# Altium footprint library LQFP.PcbLib: 2 footprints
Each footprint in its own frame and in the unit in brackets; x right, y up, seen from the top. Pads: shape width x height; smd on the part's side, far side on the other; paste and mask are expansions set on the pad; w line width, h text height; cw(c..) or ccw(c..) is an arc to the next point about the centre after c.
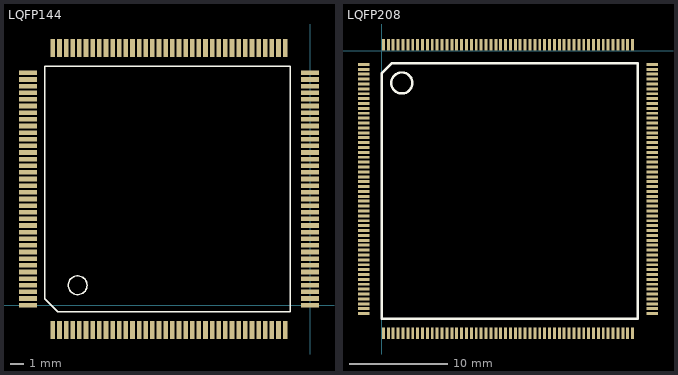
[diagram p0: the footprints below, top view; thin cyan lines are the x and y axes]

## LQFP144 [mm]
pads (144):
  rect 0.35x1.35 smd: 1(-19.375,-1.875) 2(-18.875,-1.875) 3(-18.375,-1.875) 4(-17.875,-1.875) 5(-17.375,-1.875) 6(-16.875,-1.875) 7(-16.375,-1.875) 8(-15.875,-1.875) 9(-15.375,-1.875) 10(-14.875,-1.875) 11(-14.375,-1.875) 12(-13.875,-1.875) 13(-13.375,-1.875) 14(-12.875,-1.875) 15(-12.375,-1.875) 16(-11.875,-1.875) 17(-11.375,-1.875) 18(-10.875,-1.875) 19(-10.375,-1.875) 20(-9.875,-1.875) 21(-9.375,-1.875) 22(-8.875,-1.875) 23(-8.375,-1.875) 24(-7.875,-1.875) 25(-7.375,-1.875) 26(-6.875,-1.875) 27(-6.375,-1.875) 28(-5.875,-1.875) 29(-5.375,-1.875) 30(-4.875,-1.875) 31(-4.375,-1.875) 32(-3.875,-1.875) 33(-3.375,-1.875) 34(-2.875,-1.875) 35(-2.375,-1.875) 36(-1.875,-1.875) 73(-1.875,19.375) 74(-2.375,19.375) 75(-2.875,19.375) 76(-3.375,19.375) 77(-3.875,19.375) 78(-4.375,19.375) 79(-4.875,19.375) 80(-5.375,19.375) 81(-5.875,19.375) 82(-6.375,19.375) 83(-6.875,19.375) 84(-7.375,19.375) 85(-7.875,19.375) 86(-8.375,19.375) 87(-8.875,19.375) 88(-9.375,19.375) 89(-9.875,19.375) 90(-10.375,19.375) 91(-10.875,19.375) 92(-11.375,19.375) 93(-11.875,19.375) 94(-12.375,19.375) 95(-12.875,19.375) 96(-13.375,19.375) 97(-13.875,19.375) 98(-14.375,19.375) 99(-14.875,19.375) 100(-15.375,19.375) 101(-15.875,19.375) 102(-16.375,19.375) 103(-16.875,19.375) 104(-17.375,19.375) 105(-17.875,19.375) 106(-18.375,19.375) 107(-18.875,19.375) 108(-19.375,19.375)
  rect 1.35x0.35 smd: 37(0,0) 38(0,0.5) 39(0,1) 40(0,1.5) 41(0,2) 42(0,2.5) 43(0,3) 44(0,3.5) 45(0,4) 46(0,4.5) 47(0,5) 48(0,5.5) 49(0,6) 50(0,6.5) 51(0,7) 52(0,7.5) 53(0,8) 54(0,8.5) 55(0,9) 56(0,9.5) 57(0,10) 58(0,10.5) 59(0,11) 60(0,11.5) 61(0,12) 62(0,12.5) 63(0,13) 64(0,13.5) 65(0,14) 66(0,14.5) 67(0,15) 68(0,15.5) 69(0,16) 70(0,16.5) 71(0,17) 72(0,17.5) 109(-21.25,17.5) 110(-21.25,17) 111(-21.25,16.5) 112(-21.25,16) 113(-21.25,15.5) 114(-21.25,15) 115(-21.25,14.5) 116(-21.25,14) 117(-21.25,13.5) 118(-21.25,13) 119(-21.25,12.5) 120(-21.25,12) 121(-21.25,11.5) 122(-21.25,11) 123(-21.25,10.5) 124(-21.25,10) 125(-21.25,9.5) 126(-21.25,9) 127(-21.25,8.5) 128(-21.25,8) 129(-21.25,7.5) 130(-21.25,7) 131(-21.25,6.5) 132(-21.25,6) 133(-21.25,5.5) 134(-21.25,5) 135(-21.25,4.5) 136(-21.25,4) 137(-21.25,3.5) 138(-21.25,3) 139(-21.25,2.5) 140(-21.25,2) 141(-21.25,1.5) 142(-21.25,1) 143(-21.25,0.5) 144(-21.25,0)
Top Overlay:
  circle w0.1: c-17.5,1.5 r0.707
  lines w0.1: -20,0.5 -20,18 -1.5,18 -1.5,17.5 -1.5,-0.5 -19,-0.5 -20,0.5
3D body "User Library-LQFP144_STM32F4.STEP": height 2, standoff 0.1, extent -21.625,-2.25 0.375,19.75

## LQFP208 [mm]
pads (208):
  rect 1.2x0.3 smd: 1(-1.85,-1.4) 2(-1.85,-1.9) 3(-1.85,-2.4) 4(-1.85,-2.9) 5(-1.85,-3.4) 6(-1.85,-3.9) 7(-1.85,-4.4) 8(-1.85,-4.9) 9(-1.85,-5.4) 10(-1.85,-5.9) 11(-1.85,-6.4) 12(-1.85,-6.9) 13(-1.85,-7.4) 14(-1.85,-7.9) 15(-1.85,-8.4) 16(-1.85,-8.9) 17(-1.85,-9.4) 18(-1.85,-9.9) 19(-1.85,-10.4) 20(-1.85,-10.9) 21(-1.85,-11.4) 22(-1.85,-11.9) 23(-1.85,-12.4) 24(-1.85,-12.9) 25(-1.85,-13.4) 26(-1.85,-13.9) 27(-1.85,-14.4) 28(-1.85,-14.9) 29(-1.85,-15.4) 30(-1.85,-15.9) 31(-1.85,-16.4) 32(-1.85,-16.9) 33(-1.85,-17.4) 34(-1.85,-17.9) 35(-1.85,-18.4) 36(-1.85,-18.9) 37(-1.85,-19.4) 38(-1.85,-19.9) 39(-1.85,-20.4) 40(-1.85,-20.9) 41(-1.85,-21.4) 42(-1.85,-21.9) 43(-1.85,-22.4) 44(-1.85,-22.9) 45(-1.85,-23.4) 46(-1.85,-23.9) 47(-1.85,-24.4) 48(-1.85,-24.9) 49(-1.85,-25.4) 50(-1.85,-25.9) 51(-1.85,-26.4) 52(-1.85,-26.9) 105(27.65,-26.9) 106(27.65,-26.4) 107(27.65,-25.9) 108(27.65,-25.4) 109(27.65,-24.9) 110(27.65,-24.4) 111(27.65,-23.9) 112(27.65,-23.4) 113(27.65,-22.9) 114(27.65,-22.4) 115(27.65,-21.9) 116(27.65,-21.4) 117(27.65,-20.9) 118(27.65,-20.4) 119(27.65,-19.9) 120(27.65,-19.4) 121(27.65,-18.9) 122(27.65,-18.4) 123(27.65,-17.9) 124(27.65,-17.4) 125(27.65,-16.9) 126(27.65,-16.4) 127(27.65,-15.9) 128(27.65,-15.4) 129(27.65,-14.9) 130(27.65,-14.4) 131(27.65,-13.9) 132(27.65,-13.4) 133(27.65,-12.9) 134(27.65,-12.4) 135(27.65,-11.9) 136(27.65,-11.4) 137(27.65,-10.9) 138(27.65,-10.4) 139(27.65,-9.9) 140(27.65,-9.4) 141(27.65,-8.9) 142(27.65,-8.4) 143(27.65,-7.9) 144(27.65,-7.4) 145(27.65,-6.9) 146(27.65,-6.4) 147(27.65,-5.9) 148(27.65,-5.4) 149(27.65,-4.9) 150(27.65,-4.4) 151(27.65,-3.9) 152(27.65,-3.4) 153(27.65,-2.9) 154(27.65,-2.4) 155(27.65,-1.9) 156(27.65,-1.4)
  rect 0.3x1.2 smd: 53(0.15,-28.9) 54(0.65,-28.9) 55(1.15,-28.9) 56(1.65,-28.9) 57(2.15,-28.9) 58(2.65,-28.9) 59(3.15,-28.9) 60(3.65,-28.9) 61(4.15,-28.9) 62(4.65,-28.9) 63(5.15,-28.9) 64(5.65,-28.9) 65(6.15,-28.9) 66(6.65,-28.9) 67(7.15,-28.9) 68(7.65,-28.9) 69(8.15,-28.9) 70(8.65,-28.9) 71(9.15,-28.9) 72(9.65,-28.9) 73(10.15,-28.9) 74(10.65,-28.9) 75(11.15,-28.9) 76(11.65,-28.9) 77(12.15,-28.9) 78(12.65,-28.9) 79(13.15,-28.9) 80(13.65,-28.9) 81(14.15,-28.9) 82(14.65,-28.9) 83(15.15,-28.9) 84(15.65,-28.9) 85(16.15,-28.9) 86(16.65,-28.9) 87(17.15,-28.9) 88(17.65,-28.9) 89(18.15,-28.9) 90(18.65,-28.9) 91(19.15,-28.9) 92(19.65,-28.9) 93(20.15,-28.9) 94(20.65,-28.9) 95(21.15,-28.9) 96(21.65,-28.9) 97(22.15,-28.9) 98(22.65,-28.9) 99(23.15,-28.9) 100(23.65,-28.9) 101(24.15,-28.9) 102(24.65,-28.9) 103(25.15,-28.9) 104(25.65,-28.9) 157(25.65,0.6) 158(25.15,0.6) 159(24.65,0.6) 160(24.15,0.6) 161(23.65,0.6) 162(23.15,0.6) 163(22.65,0.6) 164(22.15,0.6) 165(21.65,0.6) 166(21.15,0.6) 167(20.65,0.6) 168(20.15,0.6) 169(19.65,0.6) 170(19.15,0.6) 171(18.65,0.6) 172(18.15,0.6) 173(17.65,0.6) 174(17.15,0.6) 175(16.65,0.6) 176(16.15,0.6) 177(15.65,0.6) 178(15.15,0.6) 179(14.65,0.6) 180(14.15,0.6) 181(13.65,0.6) 182(13.15,0.6) 183(12.65,0.6) 184(12.15,0.6) 185(11.65,0.6) 186(11.15,0.6) 187(10.65,0.6) 188(10.15,0.6) 189(9.65,0.6) 190(9.15,0.6) 191(8.65,0.6) 192(8.15,0.6) 193(7.65,0.6) 194(7.15,0.6) 195(6.65,0.6) 196(6.15,0.6) 197(5.65,0.6) 198(5.15,0.6) 199(4.65,0.6) 200(4.15,0.6) 201(3.65,0.6) 202(3.15,0.6) 203(2.65,0.6) 204(2.15,0.6) 205(1.65,0.6) 206(1.15,0.6) 207(0.65,0.6) 208(0.15,0.6)
Top Overlay:
  circle w0.254: c2.032,-3.302 r1.078
  lines w0.254: 0,-27.432 0,-2.794 0,-2.286 1.016,-1.27 2.54,-1.27 25.908,-1.27 26.162,-1.27 26.162,-1.524 26.162,-27.432 0,-27.432
3D body "User Library-LQFP-208.step": height 1.39, standoff -0.01, extent -1.841,-28.916 27.658,0.584